# EAGLE library part 535512-10_S (library con-tyco-modu)
RECEPTACAL
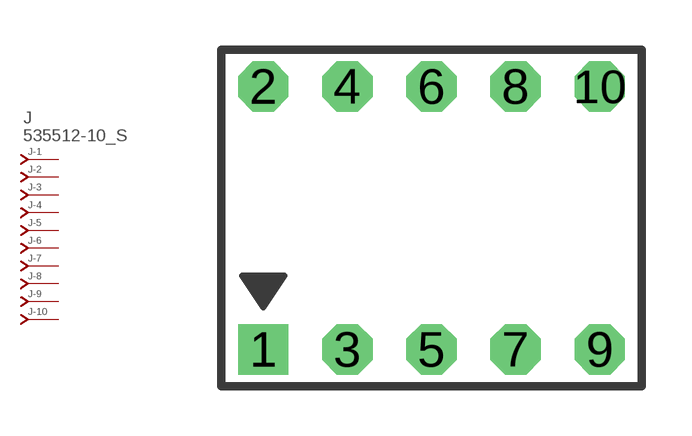
[diagram p16: symbol with the pads of 535512-10; footprint 535512-10]

Designator prefix J; gates -1=J-NV -2=J-N -3=J-N -4=J-N -5=J-N -6=J-N -7=J-N -8=J-N -9=J-N -10=J-N

## 535512-10_S  [535512-10]
1  -1:J  pas
2  -2:J  pas
3  -3:J  pas
4  -4:J  pas
5  -5:J  pas
6  -6:J  pas
7  -7:J  pas
8  -8:J  pas
9  -9:J  pas
10  -10:J  pas

## Footprint 535512-10 (pad centres in mm)
AMPMODU - 535512 Series
drill 1.016 square: 1 -5.08,0
drill 1.016 octagon: 2 -5.08,7.938; 3 -2.54,0; 4 -2.54,7.938; 5 0,0; 6 0,7.938; 7 2.54,0; 8 2.54,7.938; 9 5.08,0; 10 5.08,7.938